# Altium footprint library SOIC127P1032X265-24N.PcbLib: 1 footprints
Each footprint in its own frame and in the unit in brackets; x right, y up, seen from the top. Pads: shape width x height; smd on the part's side, far side on the other; paste and mask are expansions set on the pad; w line width, h text height; cw(c..) or ccw(c..) is an arc to the next point about the centre after c.
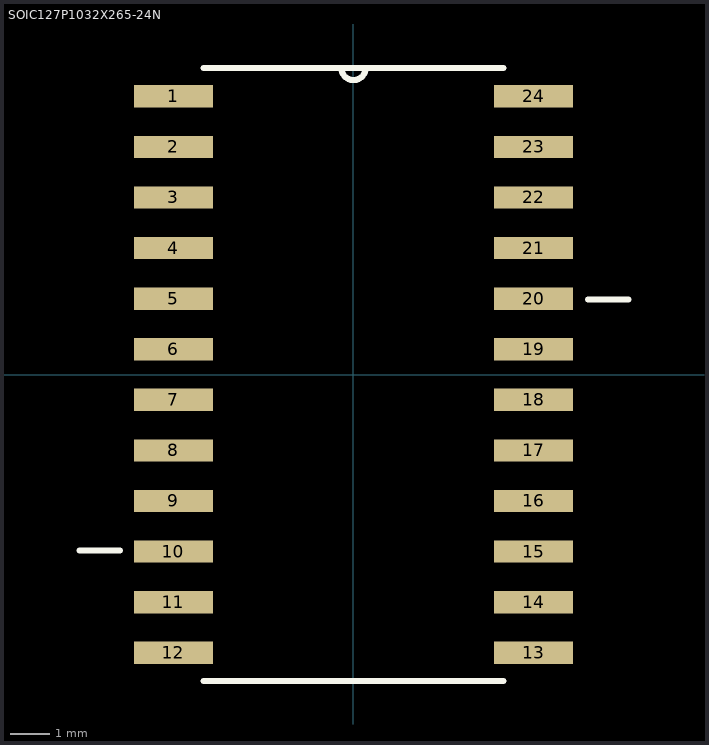
[diagram p0: the footprint, top view; thin cyan lines are the x and y axes]

## SOIC127P1032X265-24N [mil]
pads (24):
  rect 78x22 smd: 1(-178,275) 2(-178,225) 3(-178,175) 4(-178,125) 5(-178,75) 6(-178,25) 7(-178,-25) 8(-178,-75) 9(-178,-125) 10(-178,-175) 11(-178,-225) 12(-178,-275) 13(178,-275) 14(178,-225) 15(178,-175) 16(178,-125) 17(178,-75) 18(178,-25) 19(178,25) 20(178,75) 21(178,125) 22(178,175) 23(178,225) 24(178,275)
Top Overlay:
  lines w6: -271,-174 -231,-174 ; -148,-303 148,-303 ; -148,303 -12,303 ; 148,303 12,303 ; 232,74 272,74 ; -12,303 12,303 ; -12.01,303 ccw(c0,303) 12.01,303